# EAGLE library part PIC32MX150F128B- (library johnmamish-microchip)
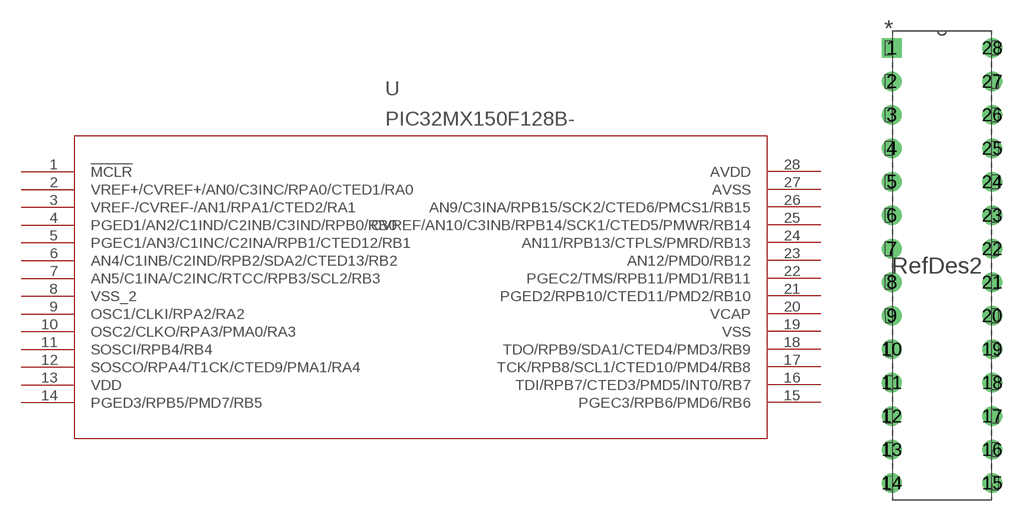
[diagram p3: symbol with the pads of SPDIP28_300MC; footprint SPDIP28_300MC]

Designator prefix U

## PIC32MX150F128B-  [SPDIP28_300MC]
1  !MCLR!  pas
2  VREF+/CVREF+/AN0/C3INC/RPA0/CTED1/RA0  pas
3  VREF-/CVREF-/AN1/RPA1/CTED2/RA1  pas
4  PGED1/AN2/C1IND/C2INB/C3IND/RPB0/RB0  pas
5  PGEC1/AN3/C1INC/C2INA/RPB1/CTED12/RB1  pas
6  AN4/C1INB/C2IND/RPB2/SDA2/CTED13/RB2  pas
7  AN5/C1INA/C2INC/RTCC/RPB3/SCL2/RB3  pas
8  VSS_2  pas
9  OSC1/CLKI/RPA2/RA2  pas
10  OSC2/CLKO/RPA3/PMA0/RA3  pas
11  SOSCI/RPB4/RB4  pas
12  SOSCO/RPA4/T1CK/CTED9/PMA1/RA4  pas
13  VDD  pas
14  PGED3/RPB5/PMD7/RB5  pas
15  PGEC3/RPB6/PMD6/RB6  pas
16  TDI/RPB7/CTED3/PMD5/INT0/RB7  pas
17  TCK/RPB8/SCL1/CTED10/PMD4/RB8  pas
18  TDO/RPB9/SDA1/CTED4/PMD3/RB9  pas
19  VSS  pas
20  VCAP  pas
21  PGED2/RPB10/CTED11/PMD2/RB10  pas
22  PGEC2/TMS/RPB11/PMD1/RB11  pas
23  AN12/PMD0/RB12  pas
24  AN11/RPB13/CTPLS/PMRD/RB13  pas
25  CVREF/AN10/C3INB/RPB14/SCK1/CTED5/PMWR/RB14  pas
26  AN9/C3INA/RPB15/SCK2/CTED6/PMCS1/RB15  pas
27  AVSS  pas
28  AVDD  pas

## Footprint SPDIP28_300MC (pad centres in mm)
drill 0.991 square: 1 -7.62,33.02
drill 0.991: 2 -7.62,30.48; 3 -7.62,27.94; 4 -7.62,25.4; 5 -7.62,22.86; 6 -7.62,20.32; 7 -7.62,17.78; 8 -7.62,15.24; 9 -7.62,12.7; 10 -7.62,10.16; 11 -7.62,7.62; 12 -7.62,5.08; 13 -7.62,2.54; 14 -7.62,0; 15 0,0; 16 0,2.54; 17 0,5.08; 18 0,7.62; 19 0,10.16; 20 0,12.7; 21 0,15.24; 22 0,17.78; 23 0,20.32; 24 0,22.86; 25 0,25.4; 26 0,27.94; 27 0,30.48; 28 0,33.02